# Altium schematic symbol library 模拟开关.SchLib: 3 symbols
Pins are listed as number, name and electrical type; pins without a type are passive.

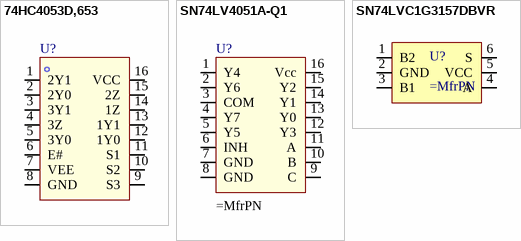
[diagram p0: symbols 74HC4053D,653 to SN74LVC1G3157DBVR]

## 74HC4053D,653
designator U?
pins: 1 2Y1, 2 2Y0, 3 3Y1, 4 3Z, 5 3Y0, 6 E#, 7 VEE, 8 GND, 9 S3, 10 S2, 11 S1, 12 1Y0, 13 1Y1, 14 1Z, 15 2Z, 16 VCC

## SN74LV4051A-Q1
designator U?
pins: 1 Y4, 2 Y6, 3 COM, 4 Y7, 5 Y5, 6 INH, 7 GND, 8 GND, 9 C, 10 B, 11 A, 12 Y3, 13 Y0, 14 Y1, 15 Y2, 16 Vcc

## SN74LVC1G3157DBVR
designator U?
pins: 1 B2, 2 GND, 3 B1, 4 A, 5 VCC, 6 S